# Altium footprint library PcbLib1.PcbLib: 4 footprints
Each footprint in its own frame and in the unit in brackets; x right, y up, seen from the top. Pads: shape width x height; smd on the part's side, far side on the other; paste and mask are expansions set on the pad; w line width, h text height; cw(c..) or ccw(c..) is an arc to the next point about the centre after c.
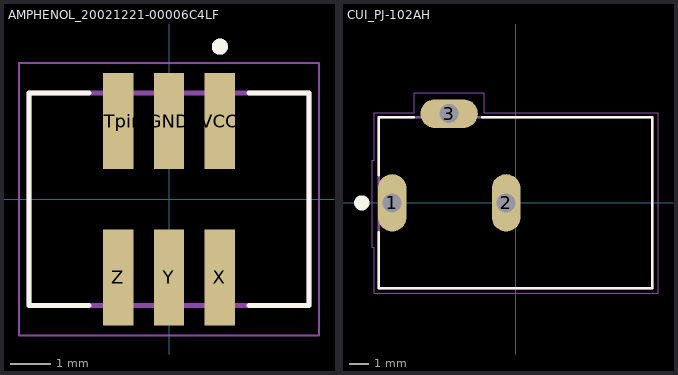
[diagram p0: the footprints below, top view; thin cyan lines are the x and y axes]

## AMPHENOL_20021221-00006C4LF [mm]
height 5.6
pads (6):
  rect 0.76x2.4 smd: GND(0,1.95) STpin(-1.27,1.95) VCC(1.27,1.95) X(1.27,-1.95) Y(0,-1.95) Z(-1.27,-1.95)
Top Overlay:
  circle w0.2: c1.27,3.81 r0.1
  lines w0.127: -2,-2.65 -3.495,-2.65 -3.495,2.65 -2,2.65 ; 2,-2.65 3.495,-2.65 3.495,2.65 2,2.65
Top 3D Body:
  circle w0.2: c1.27,3.81 r0.1
  lines w0.127: -3.495,-2.65 -3.495,2.65 3.495,2.65 3.495,-2.65 -3.495,-2.65
Top Courtyard:
  lines w0.05: -3.745,-3.4 3.745,-3.4 3.745,3.4 -3.745,3.4 -3.745,-3.4
3D body "step_temp.STEP": height 5.6, standoff 0, extent -3.4,-2.75 3.4,2.75

## CUI_PJ-102AH [mm]
pads (3):
  oval 1.508x3.016 hole 1 square: 1(-6.5,0) 2(-0.5,0)
  oval 3.016x1.508 hole 1 square: 3(-3.5,4.7)
Top Overlay:
  circle w0.4: c-8.1,0 r0.2
  lines w0.127: -7.2,-1.55 -7.2,-4.5 7.2,-4.5 7.2,4.5 -1.75,4.5 ; -7.2,1.45 -7.2,4.5 -5.35,4.5
Mechanical 13:
  lines w0.127: -7.2,-4.5 7.2,-4.5 7.2,4.5 -7.2,4.5 -7.2,-4.5
Mechanical 15:
  lines w0.05: -7.55,-2.35 -7.55,2.25 -7.45,2.25 -7.45,4.75 -5.35,4.75 -5.35,5.8 -1.65,5.8 -1.65,4.75 7.5,4.75 7.5,-4.75 -7.45,-4.75 -7.45,-2.35 -7.55,-2.35
3D body "step_temp.STEP": height 4.5, standoff -10, extent -14.4,-4.5 0,4.9

## PCBComponent_1 [mm]

## PCBComponent_1 - duplicate [mm]